# EAGLE library part FX10A-120S/12-SV (library Mechanical)
Receptacle with ground plane
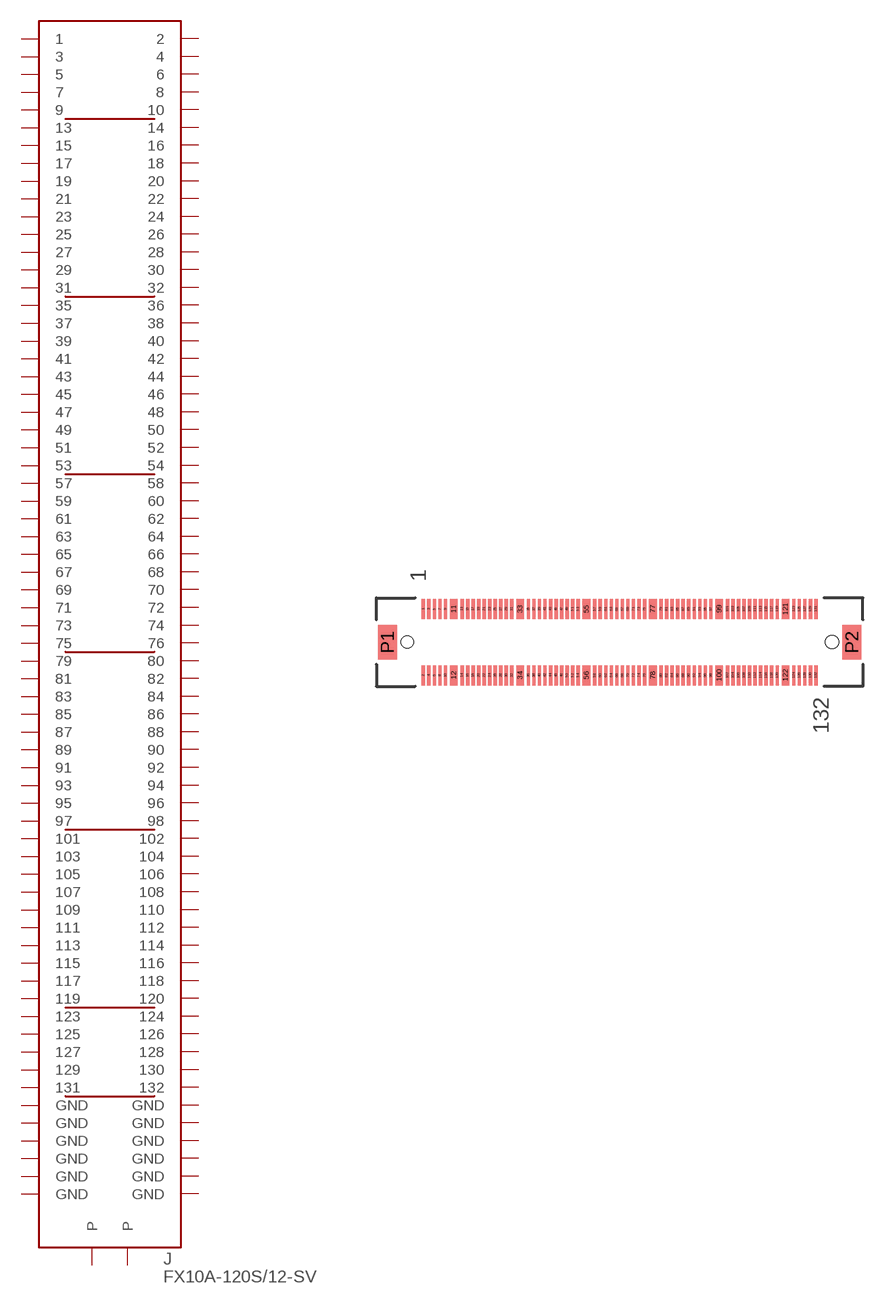
[diagram p73: symbol with the pads of FX10A-120S/12-SV; footprint FX10A-120S/12-SV]

Designator prefix J

## FX10A-120S/12-SV  [FX10A-120S/12-SV]
1  1
2  2
3  3
4  4
5  5
6  6
7  7
8  8
9  9
10  10
11  GND
12  GND
13  13
14  14
15  15
16  16
17  17
18  18
19  19
20  20
21  21
22  22
23  23
24  24
25  25
26  26
27  27
28  28
29  29
30  30
31  31
32  32
33  GND
34  GND
35  35
36  36
37  37
38  38
39  39
40  40
41  41
42  42
43  43
44  44
45  45
46  46
47  47
48  48
49  49
50  50
51  51
52  52
53  53
54  54
55  GND
56  GND
57  57
58  58
59  59
60  60
61  61
62  62
63  63
64  64
65  65
66  66
67  67
68  68
69  69
70  70
71  71
72  72
73  73
74  74
75  75
76  76
77  GND
78  GND
79  79
80  80
81  81
82  82
83  83
84  84
85  85
86  86
87  87
88  88
89  89
90  90
91  91
92  92
93  93
94  94
95  95
96  96
97  97
98  98
99  GND
100  GND
101  101
102  102
103  103
104  104
105  105
106  106
107  107
108  108
109  109
110  110
111  111
112  112
113  113
114  114
115  115
116  116
117  117
118  118
119  119
120  120
121  GND
122  GND
123  123
124  124
125  125
126  126
127  127
128  128
129  129
130  130
131  131
132  132
P1  P
P2  P

## Footprint FX10A-120S/12-SV (pad centres in mm)
Hirose FX10 Receptacle with ground plate
smd 0.3 x 1.8: 1 -17.75,3; 2 -17.75,-3; 3 -17.25,3; 4 -17.25,-3; 5 -16.75,3; 6 -16.75,-3; 7 -16.25,3; 8 -16.25,-3; 9 -15.75,3; 10 -15.75,-3; 13 -14.25,3; 14 -14.25,-3; 15 -13.75,3; 16 -13.75,-3; 17 -13.25,3; 18 -13.25,-3; 19 -12.75,3; 20 -12.75,-3; 21 -12.25,3; 22 -12.25,-3; 23 -11.75,3; 24 -11.75,-3; 25 -11.25,3; 26 -11.25,-3; 27 -10.75,3; 28 -10.75,-3; 29 -10.25,3; 30 -10.25,-3; 31 -9.75,3; 32 -9.75,-3; 35 -8.25,3; 36 -8.25,-3; 37 -7.75,3; 38 -7.75,-3; 39 -7.25,3; 40 -7.25,-3; 41 -6.75,3; 42 -6.75,-3; 43 -6.25,3; 44 -6.25,-3; 45 -5.75,3; 46 -5.75,-3; 47 -5.25,3; 48 -5.25,-3; 49 -4.75,3; 50 -4.75,-3; 51 -4.25,3; 52 -4.25,-3; 53 -3.75,3; 54 -3.75,-3; 57 -2.25,3; 58 -2.25,-3; 59 -1.75,3; 60 -1.75,-3; 61 -1.25,3; 62 -1.25,-3; 63 -0.75,3; 64 -0.75,-3; 65 -0.25,3; 66 -0.25,-3; 67 0.25,3; 68 0.25,-3; 69 0.75,3; 70 0.75,-3; 71 1.25,3; 72 1.25,-3; 73 1.75,3; 74 1.75,-3; 75 2.25,3; 76 2.25,-3; 79 3.75,3; 80 3.75,-3; 81 4.25,3; 82 4.25,-3; 83 4.75,3; 84 4.75,-3; 85 5.25,3; 86 5.25,-3; 87 5.75,3; 88 5.75,-3; 89 6.25,3; 90 6.25,-3; 91 6.75,3; 92 6.75,-3; 93 7.25,3; 94 7.25,-3; 95 7.75,3; 96 7.75,-3; 97 8.25,3; 98 8.25,-3; 101 9.75,3; 102 9.75,-3; 103 10.25,3; 104 10.25,-3; 105 10.75,3; 106 10.75,-3; 107 11.25,3; 108 11.25,-3; 109 11.75,3; 110 11.75,-3; 111 12.25,3; 112 12.25,-3; 113 12.75,3; 114 12.75,-3; 115 13.25,3; 116 13.25,-3; 117 13.75,3; 118 13.75,-3; 119 14.25,3; 120 14.25,-3; 123 15.75,3; 124 15.75,-3; 125 16.25,3; 126 16.25,-3; 127 16.75,3; 128 16.75,-3; 129 17.25,3; 130 17.25,-3; 131 17.75,3; 132 17.75,-3
smd 0.7 x 1.8: 11 -15,3; 12 -15,-3; 33 -9,3; 34 -9,-3; 55 -3,3; 56 -3,-3; 77 3,3; 78 3,-3; 99 9,3; 100 9,-3; 121 15,3; 122 15,-3
smd 1.7 x 3.1: P1 -21,0; P2 21,0
hole 1.2 at 19.2,0
hole 1.1 at -19.2,0